# Altium integrated library ON Semi Small Signal Switching Diodes.IntLib: 233 symbols (part 3 of 6)
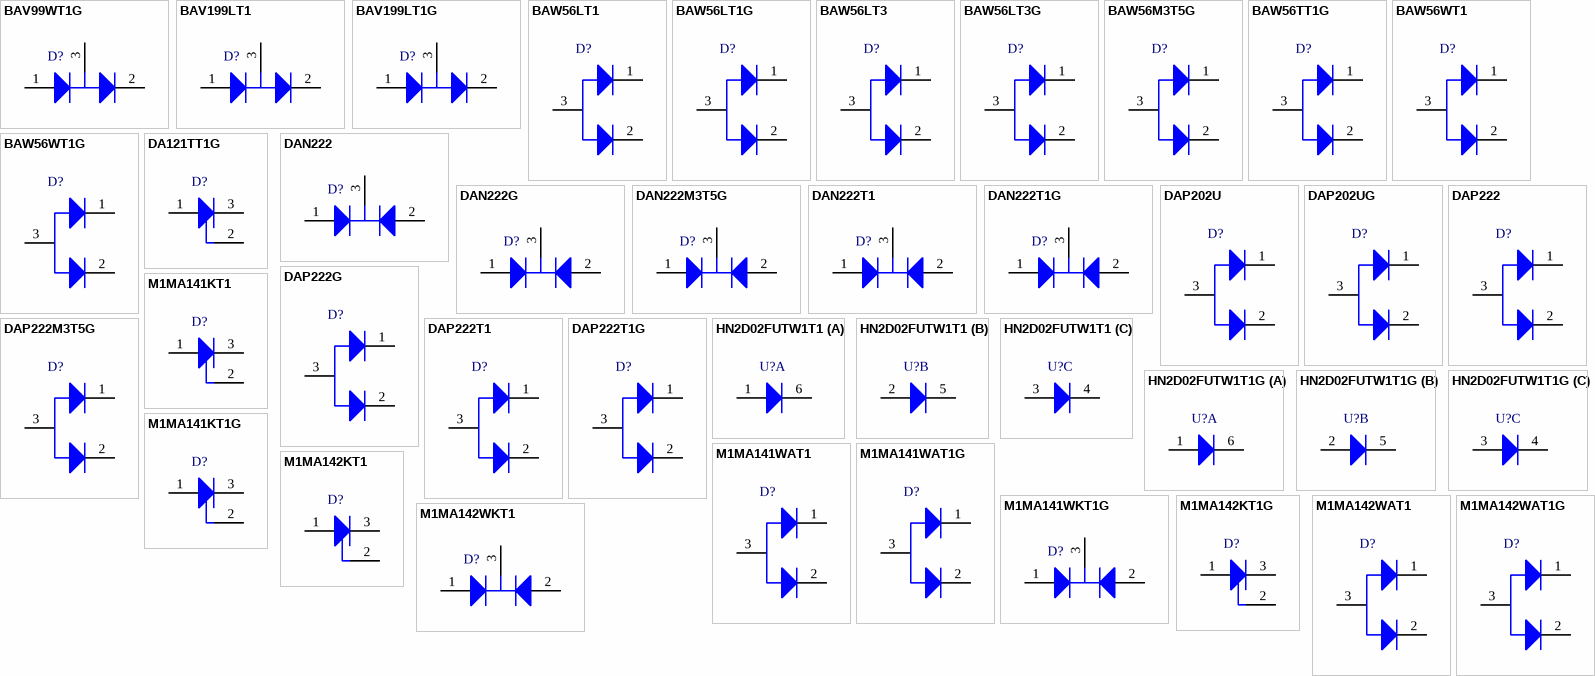
[diagram p8: symbols BAV99WT1G to M1MA142WKT1]

## DAP222
designator D?
Common Anode Silicon Dual Switching Diodes, 3-Pin SOT-416, Tape and Reel; Manufacturer: On Semiconductor; PartNumber: DAP222; IF Max (A): 0.1; trr Max (ns): 4; DatasheetVersion: Rev. 5; PackageVersion: Rev. F, 07/2005; PackageReference: SOT-416-3-463-01; PackageDescription: 3-Pin Small Outline Transistor, Body 1.6 x 0.8 mm, Pitch 0.5 mm; Supplier 1: Digi-Key; Supplier Part Number 1: DAP222OSTR-ND; Supplier 2: Digi-Key; Supplier Part Number 2: DAP222OSCT-ND; Configuration: Common Anode; Packing: Tape and Reel; RoHS: FALSE; Mounting Technology: Surface Mount; ComponentLink1Description: Manufacturer URL; ComponentLink1URL: http://www.onsemi.com/; ComponentLink2Description: Datasheet; ComponentLink2URL: http://www.onsemi.cn/pub_link/Collateral/DAP222-D.PDF; ComponentLink3Description: Package Specification; ComponentLink3URL: http://www.onsemi.com/pub_link/Collateral/463-01.PDF
footprint ONSC-SOT-416-3-463-01_V (SOT23, 3-Leads, Body 1.6x0.8mm, Pitch 0.5mm)
pins: 1 K1, 2 K2, 3 A

## DAP222G
designator D?
Common Anode Silicon Dual Switching Diodes, 3-Pin SOT-416, Pb-Free, Tape and Reel; Manufacturer: On Semiconductor; PartNumber: DAP222G; IF Max (A): 0.1; trr Max (ns): 4; DatasheetVersion: Rev. 5; PackageVersion: Rev. F, 07/2005; PackageReference: SOT-416-3-463-01; PackageDescription: 3-Pin Small Outline Transistor, Body 1.6 x 0.8 mm, Pitch 0.5 mm; Supplier 1: Digi-Key; Supplier Part Number 1: DAP222GOSTR-ND; Supplier 2: Digi-Key; Supplier Part Number 2: DAP222GOSCT-ND; Supplier 3: Digi-Key; Supplier Part Number 3: DAP222GOSDKR-ND; Supplier 4: Newark; Supplier Part Number 4: 88H4594; Supplier 5: Mouser; Supplier Part Number 5: 863-DAP222G; Configuration: Common Anode; Packing: Tape and Reel; RoHS: TRUE; Mounting Technology: Surface Mount; ComponentLink1Description: Manufacturer URL; ComponentLink1URL: http://www.onsemi.com/; ComponentLink2Description: Datasheet; ComponentLink2URL: http://www.onsemi.cn/pub_link/Collateral/DAP222-D.PDF; ComponentLink3Description: Package Specification; ComponentLink3URL: http://www.onsemi.com/pub_link/Collateral/463-01.PDF
footprint ONSC-SOT-416-3-463-01_V (SOT23, 3-Leads, Body 1.6x0.8mm, Pitch 0.5mm)
pins: 1 K1, 2 K2, 3 A

## DAP222M3T5G
designator D?
Common Anode Silicon Dual Switching Diodes, 3-Pin SOT-723, Pb-Free, Tape and Reel; Manufacturer: On Semiconductor; PartNumber: DAP222M3T5G; IF Max (A): 0.1; trr Max (ns): 4; DatasheetVersion: Rev. 1; PackageVersion: Rev. C, 08/2006; PackageReference: SOT-723-3-631AA-01_C; PackageDescription: 3-Pin SOT223, Body 0.8 x 1.2 mm, Pitch 0.4 mm; Supplier 1: Digi-Key; Supplier Part Number 1: DAP222M3T5G-ND; Supplier 2: Mouser; Supplier Part Number 2: 863-DAP222M3T5G; Configuration: Common Anode; Packing: Tape and Reel; RoHS: TRUE; Mounting Technology: Surface Mount; ComponentLink1Description: Manufacturer URL; ComponentLink1URL: http://www.onsemi.com/; ComponentLink2Description: Datasheet; ComponentLink2URL: http://www.onsemi.cn/pub_link/Collateral/DAP222M3-D.PDF; ComponentLink3Description: Package Specification; ComponentLink3URL: http://www.onsemi.cn/pub_link/Collateral/BAT54M3-D.PDF
footprint ONSC-SOT-723-3-631AA-01_C_V (SOT23, 3-Leads, Body 1.25x0.85mm, Pitch 0.4mm)
pins: 1 K1, 2 K2, 3 A

## DAP222T1
designator D?
Common Anode Silicon Dual Switching Diodes, 3-Pin SOT-416, Tape and Reel; Manufacturer: On Semiconductor; PartNumber: DAP222T1; IF Max (A): 0.1; trr Max (ns): 4; DatasheetVersion: Rev. 5; PackageVersion: Rev. F, 07/2005; PackageReference: SOT-416-3-463-01; PackageDescription: 3-Pin Small Outline Transistor, Body 1.6 x 0.8 mm, Pitch 0.5 mm; Supplier 1: Digi-Key; Supplier Part Number 1: DAP222T1OS-ND; Configuration: Common Anode; Packing: Tape and Reel; RoHS: FALSE; Mounting Technology: Surface Mount; ComponentLink1Description: Manufacturer URL; ComponentLink1URL: http://www.onsemi.com/; ComponentLink2Description: Datasheet; ComponentLink2URL: http://www.onsemi.cn/pub_link/Collateral/DAP222-D.PDF; ComponentLink3Description: Package Specification; ComponentLink3URL: http://www.onsemi.com/pub_link/Collateral/463-01.PDF
footprint ONSC-SOT-416-3-463-01_V (SOT23, 3-Leads, Body 1.6x0.8mm, Pitch 0.5mm)
pins: 1 K1, 2 K2, 3 A

## DAP222T1G
designator D?
Common Anode Silicon Dual Switching Diodes, 3-Pin SOT-416, Pb-Free, Tape and Reel; Manufacturer: On Semiconductor; PartNumber: DAP222T1G; IF Max (A): 0.1; trr Max (ns): 4; DatasheetVersion: Rev. 5; PackageVersion: Rev. F, 07/2005; PackageReference: SOT-416-3-463-01; PackageDescription: 3-Pin Small Outline Transistor, Body 1.6 x 0.8 mm, Pitch 0.5 mm; Supplier 1: Digi-Key; Supplier Part Number 1: DAP222T1GOSTR-ND; Supplier 2: Digi-Key; Supplier Part Number 2: DAP222T1GOSCT-ND; Supplier 3: Digi-Key; Supplier Part Number 3: DAP222T1GOSDKR-ND; Supplier 4: Newark; Supplier Part Number 4: 88H4595; Supplier 5: Mouser; Supplier Part Number 5: 863-DAP222T1G; Configuration: Common Anode; Packing: Tape and Reel; RoHS: TRUE; Mounting Technology: Surface Mount; ComponentLink1Description: Manufacturer URL; ComponentLink1URL: http://www.onsemi.com/; ComponentLink2Description: Datasheet; ComponentLink2URL: http://www.onsemi.cn/pub_link/Collateral/DAP222-D.PDF; ComponentLink3Description: Package Specification; ComponentLink3URL: http://www.onsemi.com/pub_link/Collateral/463-01.PDF
footprint ONSC-SOT-416-3-463-01_V (SOT23, 3-Leads, Body 1.6x0.8mm, Pitch 0.5mm)
pins: 1 K1, 2 K2, 3 A

## HN2D02FUTW1T1
designator U?
Ultra High Speed Switching Diodes, 6-Pin SC70, Tape and Reel; Manufacturer: On Semiconductor; PartNumber: HN2D02FUTW1T1; Configuration: Triple; IF Max (A): 0.1; trr Max (ns): 3; DatasheetVersion: Rev. 4; PackageVersion: Rev. W; PackageReference: SC70-6-419B-02_W; PackageDescription: 6-Pin Small Outline Transistor, Body 2 x 1.25 mm, Pitch 0.65 mm; Supplier 1: Digi-Key; Supplier Part Number 1: HN2D02FUTW1T1OSCT-ND; Packing: Tape and Reel; RoHS: FALSE; Mounting Technology: Surface Mount; ComponentLink1Description: Manufacturer URL; ComponentLink1URL: http://www.onsemi.com/; ComponentLink2Description: Datasheet; ComponentLink2URL: http://www.onsemi.cn/pub_link/Collateral/HN2D02FUTW1T1-D.PDF; ComponentLink3Description: Package Specification; ComponentLink3URL: http://www.onsemi.com/pub_link/Collateral/SMF05C-D.PDF
footprint ONSC-SC70-6-419B-02_W_V (SOT23, 6-Leads, Body 2x1.25mm, Pitch 0.65mm)
part A pins: 1 A1, 6 K1
part B pins: 2 A2, 5 K2
part C pins: 3 A3, 4 K3

## HN2D02FUTW1T1G
designator U?
Ultra High Speed Switching Diodes, 6-Pin SC70, Pb-Free, Tape and Reel; Manufacturer: On Semiconductor; PartNumber: HN2D02FUTW1T1G; Configuration: Triple; IF Max (A): 0.1; trr Max (ns): 3; DatasheetVersion: Rev. 4; PackageVersion: Rev. W; PackageReference: SC70-6-419B-02_W; PackageDescription: 6-Pin Small Outline Transistor, Body 2 x 1.25 mm, Pitch 0.65 mm; Supplier 1: Digi-Key; Supplier Part Number 1: HN2D02FUTW1T1GOSTR-ND; Supplier 2: Digi-Key; Supplier Part Number 2: HN2D02FUTW1T1GOSCT-ND; Supplier 3: Digi-Key; Supplier Part Number 3: HN2D02FUTW1T1GOSDKR-ND; Supplier 4: Farnell; Supplier Part Number 4: 2317444; Supplier 5: Newark; Supplier Part Number 5: 90W4405; Supplier 6: Newark; Supplier Part Number 6: 88H4651; Supplier 7: Newark; Supplier Part Number 7: 10N9696; Supplier 8: Mouser; Supplier Part Number 8: 863-HN2D02FUTW1T1G; Packing: Tape and Reel; RoHS: TRUE; Mounting Technology: Surface Mount; ComponentLink1Description: Manufacturer URL; ComponentLink1URL: http://www.onsemi.com/; ComponentLink2Description: Datasheet; ComponentLink2URL: http://www.onsemi.cn/pub_link/Collateral/HN2D02FUTW1T1-D.PDF; ComponentLink3Description: Package Specification; ComponentLink3URL: http://www.onsemi.com/pub_link/Collateral/SMF05C-D.PDF
footprint ONSC-SC70-6-419B-02_W_V (SOT23, 6-Leads, Body 2x1.25mm, Pitch 0.65mm)
part A pins: 1 A1, 6 K1
part B pins: 2 A2, 5 K2
part C pins: 3 A3, 4 K3

## M1MA141KT1
designator D?
Single Silicon Switching Diode, 3-Pin SOT-323, Tape and Reel; Manufacturer: On Semiconductor; PartNumber: M1MA141KT1; IF Max (A): 0.1; trr Max (ns): 3; DatasheetVersion: Rev. 7; PackageVersion: Rev. N, 11/2008; PackageReference: SOT-323-3-419-04; PackageDescription: 3-Pin Small Outline Transistor, Body 2 x 1.25 mm, Pitch 0.65 mm; Supplier 1: Digi-Key; Supplier Part Number 1: M1MA141KT1OSTR-ND; Supplier 2: Digi-Key; Supplier Part Number 2: M1MA141KT1OSCT-ND; Configuration: Single; Packing: Tape and Reel; RoHS: FALSE; Mounting Technology: Surface Mount; ComponentLink1Description: Manufacturer URL; ComponentLink1URL: http://www.onsemi.com/; ComponentLink2Description: Datasheet; ComponentLink2URL: http://www.onsemi.cn/pub_link/Collateral/M1MA141KT1-D.PDF; ComponentLink3Description: Package Specification; ComponentLink3URL: http://www.onsemi.com/pub_link/Collateral/419-04.PDF
footprint ONSC-SOT-323-3-419-04_V (SOT23, 3-Leads, Body 2x1.25mm, Pitch 0.65mm)
pins: 1 A, 2 NC, 3 K

## M1MA141KT1G
designator D?
Single Silicon Switching Diode, 3-Pin SOT-323, Pb-Free, Tape and Reel; Manufacturer: On Semiconductor; PartNumber: M1MA141KT1G; IF Max (A): 0.1; trr Max (ns): 3; DatasheetVersion: Rev. 7; PackageVersion: Rev. N, 11/2008; PackageReference: SOT-323-3-419-04; PackageDescription: 3-Pin Small Outline Transistor, Body 2 x 1.25 mm, Pitch 0.65 mm; Supplier 1: Digi-Key; Supplier Part Number 1: M1MA141KT1GOSTR-ND; Supplier 2: Digi-Key; Supplier Part Number 2: M1MA141KT1GOSCT-ND; Supplier 3: Digi-Key; Supplier Part Number 3: M1MA141KT1GOSDKR-ND; Supplier 4: Farnell; Supplier Part Number 4: 2317442; Supplier 5: Newark; Supplier Part Number 5: 90W4738; Supplier 6: Newark; Supplier Part Number 6: 42K1665; Supplier 7: Mouser; Supplier Part Number 7: 863-M1MA141KT1G; Configuration: Single; Packing: Tape and Reel; RoHS: TRUE; Mounting Technology: Surface Mount; ComponentLink1Description: Manufacturer URL; ComponentLink1URL: http://www.onsemi.com/; ComponentLink2Description: Datasheet; ComponentLink2URL: http://www.onsemi.cn/pub_link/Collateral/M1MA141KT1-D.PDF; ComponentLink3Description: Package Specification; ComponentLink3URL: http://www.onsemi.com/pub_link/Collateral/419-04.PDF
footprint ONSC-SOT-323-3-419-04_V (SOT23, 3-Leads, Body 2x1.25mm, Pitch 0.65mm)
pins: 1 A, 2 NC, 3 K

## M1MA141WAT1
designator D?
Common Anode Silicon Dual Switching Diodes, 3-Pin SOT-323, Tape and Reel; Manufacturer: On Semiconductor; PartNumber: M1MA141WAT1; trr Max (ns): 10; DatasheetVersion: Rev. 10; PackageVersion: Rev. N, 11/2008; PackageReference: SOT-323-3-419-04; PackageDescription: 3-Pin Small Outline Transistor, Body 2 x 1.25 mm, Pitch 0.65 mm; Supplier 1: Digi-Key; Supplier Part Number 1: M1MA141WAT1-ND; Configuration: Common Anode; Packing: Tape and Reel; RoHS: FALSE; Mounting Technology: Surface Mount; ComponentLink1Description: Manufacturer URL; ComponentLink1URL: http://www.onsemi.com/; ComponentLink2Description: Datasheet; ComponentLink2URL: http://www.onsemi.cn/pub_link/Collateral/M1MA141WAT1-D.PDF; ComponentLink3Description: Package Specification; ComponentLink3URL: http://www.onsemi.com/pub_link/Collateral/419-04.PDF
footprint ONSC-SOT-323-3-419-04_V (SOT23, 3-Leads, Body 2x1.25mm, Pitch 0.65mm)
pins: 1 K1, 2 K2, 3 A

## M1MA141WAT1G
designator D?
Common Anode Silicon Dual Switching Diodes, 3-Pin SOT-323, Pb-Free, Tape and Reel; Manufacturer: On Semiconductor; PartNumber: M1MA141WAT1G; trr Max (ns): 10; DatasheetVersion: Rev. 10; PackageVersion: Rev. N, 11/2008; PackageReference: SOT-323-3-419-04; PackageDescription: 3-Pin Small Outline Transistor, Body 2 x 1.25 mm, Pitch 0.65 mm; Supplier 1: Digi-Key; Supplier Part Number 1: M1MA141WAT1G-ND; Supplier 2: Newark; Supplier Part Number 2: 45J1750; Supplier 3: Mouser; Supplier Part Number 3: 863-M1MA141WAT1G; Configuration: Common Anode; Packing: Tape and Reel; RoHS: TRUE; Mounting Technology: Surface Mount; ComponentLink1Description: Manufacturer URL; ComponentLink1URL: http://www.onsemi.com/; ComponentLink2Description: Datasheet; ComponentLink2URL: http://www.onsemi.cn/pub_link/Collateral/M1MA141WAT1-D.PDF; ComponentLink3Description: Package Specification; ComponentLink3URL: http://www.onsemi.com/pub_link/Collateral/419-04.PDF
footprint ONSC-SOT-323-3-419-04_V (SOT23, 3-Leads, Body 2x1.25mm, Pitch 0.65mm)
pins: 1 K1, 2 K2, 3 A

## M1MA141WKT1G
designator D?
Common Cathode Silicon Dual Switching Diodes, 3-Pin SOT-323, Pb-Free, Tape and Reel; Manufacturer: On Semiconductor; PartNumber: M1MA141WKT1G; trr Max (ns): 3; DatasheetVersion: Rev. 9; PackageVersion: Rev. N, 11/2008; PackageReference: SOT-323-3-419-04; PackageDescription: 3-Pin Small Outline Transistor, Body 2 x 1.25 mm, Pitch 0.65 mm; Supplier 1: Digi-Key; Supplier Part Number 1: M1MA141WKT1G-ND; Supplier 2: Mouser; Supplier Part Number 2: 863-M1MA141WKT1G; Configuration: Common Cathode; Packing: Tape and Reel; RoHS: TRUE; Mounting Technology: Surface Mount; ComponentLink1Description: Manufacturer URL; ComponentLink1URL: http://www.onsemi.com/; ComponentLink2Description: Datasheet; ComponentLink2URL: http://www.onsemi.cn/pub_link/Collateral/M1MA141WKT1-D.PDF; ComponentLink3Description: Package Specification; ComponentLink3URL: http://www.onsemi.com/pub_link/Collateral/419-04.PDF
footprint ONSC-SOT-323-3-419-04_V (SOT23, 3-Leads, Body 2x1.25mm, Pitch 0.65mm)
pins: 1 A1, 2 A2, 3 K

## M1MA142KT1
designator D?
Single Silicon Switching Diode, 3-Pin SOT-323, Tape and Reel; Manufacturer: On Semiconductor; PartNumber: M1MA142KT1; IF Max (A): 0.1; trr Max (ns): 3; DatasheetVersion: Rev. 7; PackageVersion: Rev. N, 11/2008; PackageReference: SOT-323-3-419-04; PackageDescription: 3-Pin Small Outline Transistor, Body 2 x 1.25 mm, Pitch 0.65 mm; Supplier 1: Digi-Key; Supplier Part Number 1: M1MA142KT1-ND; Supplier 2: Mouser; Supplier Part Number 2: 863-M1MA142KT1; Configuration: Single; Packing: Tape and Reel; RoHS: FALSE; Mounting Technology: Surface Mount; ComponentLink1Description: Manufacturer URL; ComponentLink1URL: http://www.onsemi.com/; ComponentLink2Description: Datasheet; ComponentLink2URL: http://www.onsemi.cn/pub_link/Collateral/M1MA141KT1-D.PDF; ComponentLink3Description: Package Specification; ComponentLink3URL: http://www.onsemi.com/pub_link/Collateral/419-04.PDF
footprint ONSC-SOT-323-3-419-04_V (SOT23, 3-Leads, Body 2x1.25mm, Pitch 0.65mm)
pins: 1 A, 2 NC, 3 K

## M1MA142KT1G
designator D?
Single Silicon Switching Diode, 3-Pin SOT-323, Pb-Free, Tape and Reel; Manufacturer: On Semiconductor; PartNumber: M1MA142KT1G; IF Max (A): 0.1; trr Max (ns): 3; DatasheetVersion: Rev. 7; PackageVersion: Rev. N, 11/2008; PackageReference: SOT-323-3-419-04; PackageDescription: 3-Pin Small Outline Transistor, Body 2 x 1.25 mm, Pitch 0.65 mm; Supplier 1: Digi-Key; Supplier Part Number 1: M1MA142KT1G-ND; Supplier 2: Mouser; Supplier Part Number 2: 863-M1MA142KT1G; Configuration: Single; Packing: Tape and Reel; RoHS: TRUE; Mounting Technology: Surface Mount; ComponentLink1Description: Manufacturer URL; ComponentLink1URL: http://www.onsemi.com/; ComponentLink2Description: Datasheet; ComponentLink2URL: http://www.onsemi.cn/pub_link/Collateral/M1MA141KT1-D.PDF; ComponentLink3Description: Package Specification; ComponentLink3URL: http://www.onsemi.com/pub_link/Collateral/419-04.PDF
footprint ONSC-SOT-323-3-419-04_V (SOT23, 3-Leads, Body 2x1.25mm, Pitch 0.65mm)
pins: 1 A, 2 NC, 3 K

## M1MA142WAT1
designator D?
Common Anode Silicon Dual Switching Diodes, 3-Pin SOT-323, Tape and Reel; Manufacturer: On Semiconductor; PartNumber: M1MA142WAT1; Note: 0; trr Max (ns): 10; DatasheetVersion: Rev. 10; PackageVersion: Rev. N, 11/2008; PackageReference: SOT-323-3-419-04; PackageDescription: 3-Pin Small Outline Transistor, Body 2 x 1.25 mm, Pitch 0.65 mm; Configuration: Common Anode; Packing: Tape and Reel; RoHS: FALSE; Mounting Technology: Surface Mount; ComponentLink1Description: Manufacturer URL; ComponentLink1URL: http://www.onsemi.com/; ComponentLink2Description: Datasheet; ComponentLink2URL: http://www.onsemi.cn/pub_link/Collateral/M1MA141WAT1-D.PDF; ComponentLink3Description: Package Specification; ComponentLink3URL: http://www.onsemi.com/pub_link/Collateral/419-04.PDF
footprint ONSC-SOT-323-3-419-04_V (SOT23, 3-Leads, Body 2x1.25mm, Pitch 0.65mm)
pins: 1 K1, 2 K2, 3 A

## M1MA142WAT1G
designator D?
Common Anode Silicon Dual Switching Diodes, 3-Pin SOT-323, Pb-Free, Tape and Reel; Manufacturer: On Semiconductor; PartNumber: M1MA142WAT1G; trr Max (ns): 10; DatasheetVersion: Rev. 10; PackageVersion: Rev. N, 11/2008; PackageReference: SOT-323-3-419-04; PackageDescription: 3-Pin Small Outline Transistor, Body 2 x 1.25 mm, Pitch 0.65 mm; Supplier 1: Digi-Key; Supplier Part Number 1: M1MA142WAT1GOSTR-ND; Supplier 2: Digi-Key; Supplier Part Number 2: M1MA142WAT1GOSCT-ND; Supplier 3: Digi-Key; Supplier Part Number 3: M1MA142WAT1GOSDKR-ND; Supplier 4: Newark; Supplier Part Number 4: 88H4949; Supplier 5: Mouser; Supplier Part Number 5: 863-M1MA142WAT1G; Configuration: Common Anode; Packing: Tape and Reel; RoHS: TRUE; Mounting Technology: Surface Mount; ComponentLink1Description: Manufacturer URL; ComponentLink1URL: http://www.onsemi.com/; ComponentLink2Description: Datasheet; ComponentLink2URL: http://www.onsemi.cn/pub_link/Collateral/M1MA141WAT1-D.PDF; ComponentLink3Description: Package Specification; ComponentLink3URL: http://www.onsemi.com/pub_link/Collateral/419-04.PDF
footprint ONSC-SOT-323-3-419-04_V (SOT23, 3-Leads, Body 2x1.25mm, Pitch 0.65mm)
pins: 1 K1, 2 K2, 3 A

## M1MA142WKT1
designator D?
Common Cathode Silicon Dual Switching Diodes, 3-Pin SOT-323, Tape and Reel; Manufacturer: On Semiconductor; PartNumber: M1MA142WKT1; Note: 0; trr Max (ns): 3; DatasheetVersion: Rev. 9; PackageVersion: Rev. N, 11/2008; PackageReference: SOT-323-3-419-04; PackageDescription: 3-Pin Small Outline Transistor, Body 2 x 1.25 mm, Pitch 0.65 mm; Configuration: Common Cathode; Packing: Tape and Reel; RoHS: FALSE; Mounting Technology: Surface Mount; ComponentLink1Description: Manufacturer URL; ComponentLink1URL: http://www.onsemi.com/; ComponentLink2Description: Datasheet; ComponentLink2URL: http://www.onsemi.cn/pub_link/Collateral/M1MA141WKT1-D.PDF; ComponentLink3Description: Package Specification; ComponentLink3URL: http://www.onsemi.com/pub_link/Collateral/419-04.PDF
footprint ONSC-SOT-323-3-419-04_V (SOT23, 3-Leads, Body 2x1.25mm, Pitch 0.65mm)
pins: 1 A1, 2 A2, 3 K

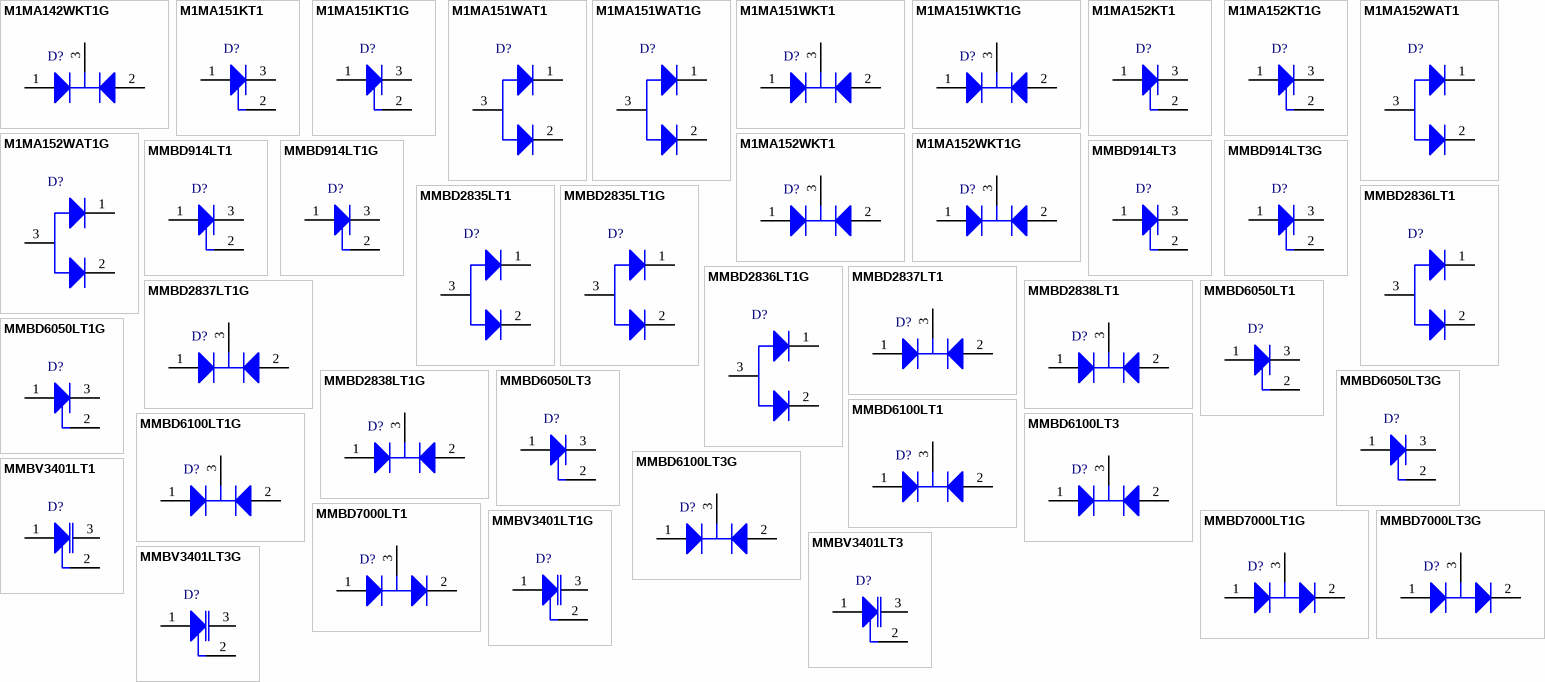
[diagram p3: symbols M1MA142WKT1G to MMBV3401LT3G]

## M1MA142WKT1G
designator D?
Common Cathode Silicon Dual Switching Diodes, 3-Pin SOT-323, Pb-Free, Tape and Reel; Manufacturer: On Semiconductor; PartNumber: M1MA142WKT1G; trr Max (ns): 3; DatasheetVersion: Rev. 9; PackageVersion: Rev. N, 11/2008; PackageReference: SOT-323-3-419-04; PackageDescription: 3-Pin Small Outline Transistor, Body 2 x 1.25 mm, Pitch 0.65 mm; Supplier 1: Digi-Key; Supplier Part Number 1: M1MA142WKT1GOSTR-ND; Supplier 2: Digi-Key; Supplier Part Number 2: M1MA142WKT1GOSCT-ND; Supplier 3: Digi-Key; Supplier Part Number 3: M1MA142WKT1GOSDKR-ND; Supplier 4: Farnell; Supplier Part Number 4: 2317453; Supplier 5: Newark; Supplier Part Number 5: 90W4739; Supplier 6: Newark; Supplier Part Number 6: 83H7586; Supplier 7: Newark; Supplier Part Number 7: 85W2266; Supplier 8: Mouser; Supplier Part Number 8: 863-M1MA142WKT1G; Configuration: Common Cathode; Packing: Tape and Reel; RoHS: TRUE; Mounting Technology: Surface Mount; ComponentLink1Description: Manufacturer URL; ComponentLink1URL: http://www.onsemi.com/; ComponentLink2Description: Datasheet; ComponentLink2URL: http://www.onsemi.cn/pub_link/Collateral/M1MA141WKT1-D.PDF; ComponentLink3Description: Package Specification; ComponentLink3URL: http://www.onsemi.com/pub_link/Collateral/419-04.PDF
footprint ONSC-SOT-323-3-419-04_V (SOT23, 3-Leads, Body 2x1.25mm, Pitch 0.65mm)
pins: 1 A1, 2 A2, 3 K

## M1MA151KT1
designator D?
Single Silicon Switching Diode, 3-Pin SC-59, Tape and Reel; Manufacturer: On Semiconductor; PartNumber: M1MA151KT1; IF Max (A): 0.1; trr Max (ns): 3; DatasheetVersion: Rev. 8; PackageVersion: Rev. H, 06/2012; PackageReference: SC-59-3-318D-04; PackageDescription: 3-Pin Small Outline Transistor, Body 2.9 x 1.5 mm, Pitch 0.95 mm; Supplier 1: Digi-Key; Supplier Part Number 1: M1MA151KT1-ND; Configuration: Single; Packing: Tape and Reel; RoHS: FALSE; Mounting Technology: Surface Mount; ComponentLink1Description: Manufacturer URL; ComponentLink1URL: http://www.onsemi.com/; ComponentLink2Description: Datasheet; ComponentLink2URL: http://www.onsemi.cn/pub_link/Collateral/M1MA151KT1-D.PDF; ComponentLink3Description: Package Specification; ComponentLink3URL: http://www.onsemi.cn/pub_link/Collateral/318D-04.PDF
footprint ONSC-SC-59-3-318D-04_V (SOT23, 3-Leads, Body 2.9x1.5mm, Pitch 0.95mm)
pins: 1 A, 2 NC, 3 K

## M1MA151KT1G
designator D?
Single Silicon Switching Diode, 3-Pin SC-59, Pb-Free, Tape and Reel; Manufacturer: On Semiconductor; PartNumber: M1MA151KT1G; IF Max (A): 0.1; trr Max (ns): 3; DatasheetVersion: Rev. 8; PackageVersion: Rev. H, 06/2012; PackageReference: SC-59-3-318D-04; PackageDescription: 3-Pin Small Outline Transistor, Body 2.9 x 1.5 mm, Pitch 0.95 mm; Supplier 1: Digi-Key; Supplier Part Number 1: M1MA151KT1G-ND; Supplier 2: Mouser; Supplier Part Number 2: 863-M1MA151KT1G; Configuration: Single; Packing: Tape and Reel; RoHS: TRUE; Mounting Technology: Surface Mount; ComponentLink1Description: Manufacturer URL; ComponentLink1URL: http://www.onsemi.com/; ComponentLink2Description: Datasheet; ComponentLink2URL: http://www.onsemi.cn/pub_link/Collateral/M1MA151KT1-D.PDF; ComponentLink3Description: Package Specification; ComponentLink3URL: http://www.onsemi.cn/pub_link/Collateral/318D-04.PDF
footprint ONSC-SC-59-3-318D-04_V (SOT23, 3-Leads, Body 2.9x1.5mm, Pitch 0.95mm)
pins: 1 A, 2 NC, 3 K

## M1MA151WAT1
designator D?
Common Anode Silicon Dual Switching Diodes, 3-Pin SC-59, Tape and Reel; Manufacturer: On Semiconductor; PartNumber: M1MA151WAT1; Note: 0; trr Max (ns): 10; DatasheetVersion: Rev. 10; PackageVersion: Rev. H, 06/2012; PackageReference: SC-59-3-318D-04; PackageDescription: 3-Pin Small Outline Transistor, Body 2.9 x 1.5 mm, Pitch 0.95 mm; Configuration: Common Anode; Packing: Tape and Reel; RoHS: FALSE; Mounting Technology: Surface Mount; ComponentLink1Description: Manufacturer URL; ComponentLink1URL: http://www.onsemi.com/; ComponentLink2Description: Datasheet; ComponentLink2URL: http://www.onsemi.cn/pub_link/Collateral/M1MA151WAT1-D.PDF; ComponentLink3Description: Package Specification; ComponentLink3URL: http://www.onsemi.cn/pub_link/Collateral/318D-04.PDF
footprint ONSC-SC-59-3-318D-04_V (SOT23, 3-Leads, Body 2.9x1.5mm, Pitch 0.95mm)
pins: 1 K1, 2 K2, 3 A

## M1MA151WAT1G
designator D?
Common Anode Silicon Dual Switching Diodes, 3-Pin SC-59, Pb-Free, Tape and Reel; Manufacturer: On Semiconductor; PartNumber: M1MA151WAT1G; trr Max (ns): 10; DatasheetVersion: Rev. 10; PackageVersion: Rev. H, 06/2012; PackageReference: SC-59-3-318D-04; PackageDescription: 3-Pin Small Outline Transistor, Body 2.9 x 1.5 mm, Pitch 0.95 mm; Supplier 1: Digi-Key; Supplier Part Number 1: M1MA151WAT1G-ND; Supplier 2: Newark; Supplier Part Number 2: 83H7589; Supplier 3: Mouser; Supplier Part Number 3: 863-M1MA151WAT1G; Configuration: Common Anode; Packing: Tape and Reel; RoHS: TRUE; Mounting Technology: Surface Mount; ComponentLink1Description: Manufacturer URL; ComponentLink1URL: http://www.onsemi.com/; ComponentLink2Description: Datasheet; ComponentLink2URL: http://www.onsemi.cn/pub_link/Collateral/M1MA151WAT1-D.PDF; ComponentLink3Description: Package Specification; ComponentLink3URL: http://www.onsemi.cn/pub_link/Collateral/318D-04.PDF
footprint ONSC-SC-59-3-318D-04_V (SOT23, 3-Leads, Body 2.9x1.5mm, Pitch 0.95mm)
pins: 1 K1, 2 K2, 3 A

## M1MA151WKT1
designator D?
Common Cathode Silicon Dual Switching Diodes, 3-Pin SC-59, Tape and Reel; Manufacturer: On Semiconductor; PartNumber: M1MA151WKT1; Note: 0; trr Max (ns): 3; DatasheetVersion: Rev. 11; PackageVersion: Rev. H, 06/2012; PackageReference: SC-59-3-318D-04; PackageDescription: 3-Pin Small Outline Transistor, Body 2.9 x 1.5 mm, Pitch 0.95 mm; Configuration: Common Cathode; Packing: Tape and Reel; RoHS: FALSE; Mounting Technology: Surface Mount; ComponentLink1Description: Manufacturer URL; ComponentLink1URL: http://www.onsemi.com/; ComponentLink2Description: Datasheet; ComponentLink2URL: http://www.onsemi.cn/pub_link/Collateral/M1MA151WKT1-D.PDF; ComponentLink3Description: Package Specification; ComponentLink3URL: http://www.onsemi.cn/pub_link/Collateral/318D-04.PDF
footprint ONSC-SC-59-3-318D-04_V (SOT23, 3-Leads, Body 2.9x1.5mm, Pitch 0.95mm)
pins: 1 A1, 2 A2, 3 K

## M1MA151WKT1G
designator D?
Common Cathode Silicon Dual Switching Diodes, 3-Pin SC-59, Pb-Free, Tape and Reel; Manufacturer: On Semiconductor; PartNumber: M1MA151WKT1G; trr Max (ns): 3; DatasheetVersion: Rev. 11; PackageVersion: Rev. H, 06/2012; PackageReference: SC-59-3-318D-04; PackageDescription: 3-Pin Small Outline Transistor, Body 2.9 x 1.5 mm, Pitch 0.95 mm; Supplier 1: Digi-Key; Supplier Part Number 1: M1MA151WKT1G-ND; Supplier 2: Newark; Supplier Part Number 2: 67H6962; Supplier 3: Mouser; Supplier Part Number 3: 863-M1MA151WKT1G; Configuration: Common Cathode; Packing: Tape and Reel; RoHS: TRUE; Mounting Technology: Surface Mount; ComponentLink1Description: Manufacturer URL; ComponentLink1URL: http://www.onsemi.com/; ComponentLink2Description: Datasheet; ComponentLink2URL: http://www.onsemi.cn/pub_link/Collateral/M1MA151WKT1-D.PDF; ComponentLink3Description: Package Specification; ComponentLink3URL: http://www.onsemi.cn/pub_link/Collateral/318D-04.PDF
footprint ONSC-SC-59-3-318D-04_V (SOT23, 3-Leads, Body 2.9x1.5mm, Pitch 0.95mm)
pins: 1 A1, 2 A2, 3 K

## M1MA152KT1
designator D?
Single Silicon Switching Diode, 3-Pin SC-59, Tape and Reel; Manufacturer: On Semiconductor; PartNumber: M1MA152KT1; IF Max (A): 0.1; trr Max (ns): 3; DatasheetVersion: Rev. 8; PackageVersion: Rev. H, 06/2012; PackageReference: SC-59-3-318D-04; PackageDescription: 3-Pin Small Outline Transistor, Body 2.9 x 1.5 mm, Pitch 0.95 mm; Supplier 1: Digi-Key; Supplier Part Number 1: M1MA152KT1-ND; Configuration: Single; Packing: Tape and Reel; RoHS: FALSE; Mounting Technology: Surface Mount; ComponentLink1Description: Manufacturer URL; ComponentLink1URL: http://www.onsemi.com/; ComponentLink2Description: Datasheet; ComponentLink2URL: http://www.onsemi.cn/pub_link/Collateral/M1MA151KT1-D.PDF; ComponentLink3Description: Package Specification; ComponentLink3URL: http://www.onsemi.cn/pub_link/Collateral/318D-04.PDF
footprint ONSC-SC-59-3-318D-04_V (SOT23, 3-Leads, Body 2.9x1.5mm, Pitch 0.95mm)
pins: 1 A, 2 NC, 3 K

## M1MA152KT1G
designator D?
Single Silicon Switching Diode, 3-Pin SC-59, Pb-Free, Tape and Reel; Manufacturer: On Semiconductor; PartNumber: M1MA152KT1G; IF Max (A): 0.1; trr Max (ns): 3; DatasheetVersion: Rev. 8; PackageVersion: Rev. H, 06/2012; PackageReference: SC-59-3-318D-04; PackageDescription: 3-Pin Small Outline Transistor, Body 2.9 x 1.5 mm, Pitch 0.95 mm; Supplier 1: Digi-Key; Supplier Part Number 1: M1MA152KT1G-ND; Supplier 2: Mouser; Supplier Part Number 2: 863-M1MA152KT1G; Configuration: Single; Packing: Tape and Reel; RoHS: TRUE; Mounting Technology: Surface Mount; ComponentLink1Description: Manufacturer URL; ComponentLink1URL: http://www.onsemi.com/; ComponentLink2Description: Datasheet; ComponentLink2URL: http://www.onsemi.cn/pub_link/Collateral/M1MA151KT1-D.PDF; ComponentLink3Description: Package Specification; ComponentLink3URL: http://www.onsemi.cn/pub_link/Collateral/318D-04.PDF
footprint ONSC-SC-59-3-318D-04_V (SOT23, 3-Leads, Body 2.9x1.5mm, Pitch 0.95mm)
pins: 1 A, 2 NC, 3 K

## M1MA152WAT1
designator D?
Common Anode Silicon Dual Switching Diodes, 3-Pin SC-59, Tape and Reel; Manufacturer: On Semiconductor; PartNumber: M1MA152WAT1; IF Max (A): 0.1; trr Max (ns): 10; DatasheetVersion: Rev. 10; PackageVersion: Rev. H, 06/2012; PackageReference: SC-59-3-318D-04; PackageDescription: 3-Pin Small Outline Transistor, Body 2.9 x 1.5 mm, Pitch 0.95 mm; Supplier 1: Digi-Key; Supplier Part Number 1: M1MA152WAT1OS-ND; Configuration: Common Anode; Packing: Tape and Reel; RoHS: FALSE; Mounting Technology: Surface Mount; ComponentLink1Description: Manufacturer URL; ComponentLink1URL: http://www.onsemi.com/; ComponentLink2Description: Datasheet; ComponentLink2URL: http://www.onsemi.cn/pub_link/Collateral/M1MA151WAT1-D.PDF; ComponentLink3Description: Package Specification; ComponentLink3URL: http://www.onsemi.cn/pub_link/Collateral/318D-04.PDF
footprint ONSC-SC-59-3-318D-04_V (SOT23, 3-Leads, Body 2.9x1.5mm, Pitch 0.95mm)
pins: 1 K1, 2 K2, 3 A

## M1MA152WAT1G
designator D?
Common Anode Silicon Dual Switching Diodes, 3-Pin SC-59, Pb-Free, Tape and Reel; Manufacturer: On Semiconductor; PartNumber: M1MA152WAT1G; IF Max (A): 0.1; trr Max (ns): 10; DatasheetVersion: Rev. 10; PackageVersion: Rev. H, 06/2012; PackageReference: SC-59-3-318D-04; PackageDescription: 3-Pin Small Outline Transistor, Body 2.9 x 1.5 mm, Pitch 0.95 mm; Supplier 1: Digi-Key; Supplier Part Number 1: M1MA152WAT1GOSTR-ND; Supplier 2: Digi-Key; Supplier Part Number 2: M1MA152WAT1GOSCT-ND; Supplier 3: Mouser; Supplier Part Number 3: 863-M1MA152WAT1G; Configuration: Common Anode; Packing: Tape and Reel; RoHS: TRUE; Mounting Technology: Surface Mount; ComponentLink1Description: Manufacturer URL; ComponentLink1URL: http://www.onsemi.com/; ComponentLink2Description: Datasheet; ComponentLink2URL: http://www.onsemi.cn/pub_link/Collateral/M1MA151WAT1-D.PDF; ComponentLink3Description: Package Specification; ComponentLink3URL: http://www.onsemi.cn/pub_link/Collateral/318D-04.PDF
footprint ONSC-SC-59-3-318D-04_V (SOT23, 3-Leads, Body 2.9x1.5mm, Pitch 0.95mm)
pins: 1 K1, 2 K2, 3 A

## M1MA152WKT1
designator D?
Common Cathode Silicon Dual Switching Diodes, 3-Pin SC-59, Tape and Reel; Manufacturer: On Semiconductor; PartNumber: M1MA152WKT1; Note: 0; trr Max (ns): 3; DatasheetVersion: Rev. 10; PackageVersion: Rev. H, 06/2012; PackageReference: SC-59-3-318D-04; PackageDescription: 3-Pin Small Outline Transistor, Body 2.9 x 1.5 mm, Pitch 0.95 mm; Configuration: Common Cathode; Packing: Tape and Reel; RoHS: FALSE; Mounting Technology: Surface Mount; ComponentLink1Description: Manufacturer URL; ComponentLink1URL: http://www.onsemi.com/; ComponentLink2Description: Datasheet; ComponentLink2URL: http://www.onsemi.cn/pub_link/Collateral/M1MA151WAT1-D.PDF; ComponentLink3Description: Package Specification; ComponentLink3URL: http://www.onsemi.cn/pub_link/Collateral/318D-04.PDF
footprint ONSC-SC-59-3-318D-04_V (SOT23, 3-Leads, Body 2.9x1.5mm, Pitch 0.95mm)
pins: 1 A1, 2 A2, 3 K

## M1MA152WKT1G
designator D?
Common Cathode Silicon Dual Switching Diodes, 3-Pin SC-59, Pb-Free, Tape and Reel; Manufacturer: On Semiconductor; PartNumber: M1MA152WKT1G; trr Max (ns): 3; DatasheetVersion: Rev. 11; PackageVersion: Rev. H, 06/2012; PackageReference: SC-59-3-318D-04; PackageDescription: 3-Pin Small Outline Transistor, Body 2.9 x 1.5 mm, Pitch 0.95 mm; Supplier 1: Digi-Key; Supplier Part Number 1: M1MA152WKT1GOSTR-ND; Supplier 2: Digi-Key; Supplier Part Number 2: M1MA152WKT1GOSCT-ND; Supplier 3: Digi-Key; Supplier Part Number 3: M1MA152WKT1GOSDKR-ND; Supplier 4: Newark; Supplier Part Number 4: 88H4951; Supplier 5: Mouser; Supplier Part Number 5: 863-M1MA152WKT1G; Configuration: Common Cathode; Packing: Tape and Reel; RoHS: TRUE; Mounting Technology: Surface Mount; ComponentLink1Description: Manufacturer URL; ComponentLink1URL: http://www.onsemi.com/; ComponentLink2Description: Datasheet; ComponentLink2URL: http://www.onsemi.cn/pub_link/Collateral/M1MA151WKT1-D.PDF; ComponentLink3Description: Package Specification; ComponentLink3URL: http://www.onsemi.cn/pub_link/Collateral/318D-04.PDF
footprint ONSC-SC-59-3-318D-04_V (SOT23, 3-Leads, Body 2.9x1.5mm, Pitch 0.95mm)
pins: 1 A1, 2 A2, 3 K

## MMBD914LT1
designator D?
High-Speed Switching Diode, 3-Pin SOT-23, Tape and Reel; Manufacturer: On Semiconductor; PartNumber: MMBD914LT1; Configuration: Single; IF Max (A): 0.2; trr Max (ns): 4; DatasheetVersion: Rev. 7; PackageVersion: Rev. AP, 11/2009; PackageReference: SOT-23-3-318-08; PackageDescription: 3-Pin Small Outline Transistor, Body 2.92 x 1.3 mm, Pitch 0.95 mm; Supplier 1: Digi-Key; Supplier Part Number 1: MMBD914LT1OSCT-ND; Packing: Tape and Reel; RoHS: FALSE; Mounting Technology: Surface Mount; ComponentLink1Description: Manufacturer URL; ComponentLink1URL: http://www.onsemi.com/; ComponentLink2Description: Datasheet; ComponentLink2URL: http://www.onsemi.cn/pub_link/Collateral/MMBD914LT1-D.PDF; ComponentLink3Description: Package Specification; ComponentLink3URL: http://www.onsemi.cn/pub_link/Collateral/318-08.PDF
footprint ONSC-SOT-23-3-318-08_V (SOT23, 3-Leads, Body 2.92x1.3mm, Pitch 0.95mm)
pins: 1 A, 2 NC, 3 K

## MMBD914LT1G
designator D?
High-Speed Switching Diode, 3-Pin SOT-23, Pb-Free, Tape and Reel; Manufacturer: On Semiconductor; PartNumber: MMBD914LT1G; Configuration: Single; IF Max (A): 0.2; trr Max (ns): 4; DatasheetVersion: Rev. 7; PackageVersion: Rev. AP, 11/2009; PackageReference: SOT-23-3-318-08; PackageDescription: 3-Pin Small Outline Transistor, Body 2.92 x 1.3 mm, Pitch 0.95 mm; Supplier 1: Digi-Key; Supplier Part Number 1: MMBD914LT1GOSTR-ND; Supplier 2: Digi-Key; Supplier Part Number 2: MMBD914LT1GOSCT-ND; Supplier 3: Digi-Key; Supplier Part Number 3: MMBD914LT1GOSDKR-ND; Supplier 4: Farnell; Supplier Part Number 4: 1431125RL; Supplier 5: Farnell; Supplier Part Number 5: 2317695; Supplier 6: Farnell; Supplier Part Number 6: 1431125; Supplier 7: Newark; Supplier Part Number 7: 88H4778; Supplier 8: Newark; Supplier Part Number 8: 67R1326; Supplier 9: Mouser; Supplier Part Number 9: 863-MMBD914LT1G; Packing: Tape and Reel; RoHS: TRUE; Mounting Technology: Surface Mount; ComponentLink1Description: Manufacturer URL; ComponentLink1URL: http://www.onsemi.com/; ComponentLink2Description: Datasheet; ComponentLink2URL: http://www.onsemi.cn/pub_link/Collateral/MMBD914LT1-D.PDF; ComponentLink3Description: Package Specification; ComponentLink3URL: http://www.onsemi.cn/pub_link/Collateral/318-08.PDF
footprint ONSC-SOT-23-3-318-08_V (SOT23, 3-Leads, Body 2.92x1.3mm, Pitch 0.95mm)
pins: 1 A, 2 NC, 3 K

## MMBD914LT3
designator D?
High-Speed Switching Diode, 3-Pin SOT-23, Tape and Reel; Manufacturer: On Semiconductor; PartNumber: MMBD914LT3; Note: 0; Configuration: Single; IF Max (A): 0.2; trr Max (ns): 4; DatasheetVersion: Rev. 7; PackageVersion: Rev. AP, 11/2009; PackageReference: SOT-23-3-318-08; PackageDescription: 3-Pin Small Outline Transistor, Body 2.92 x 1.3 mm, Pitch 0.95 mm; Packing: Tape and Reel; RoHS: FALSE; Mounting Technology: Surface Mount; ComponentLink1Description: Manufacturer URL; ComponentLink1URL: http://www.onsemi.com/; ComponentLink2Description: Datasheet; ComponentLink2URL: http://www.onsemi.cn/pub_link/Collateral/MMBD914LT1-D.PDF; ComponentLink3Description: Package Specification; ComponentLink3URL: http://www.onsemi.cn/pub_link/Collateral/318-08.PDF
footprint ONSC-SOT-23-3-318-08_V (SOT23, 3-Leads, Body 2.92x1.3mm, Pitch 0.95mm)
pins: 1 A, 2 NC, 3 K

## MMBD914LT3G
designator D?
High-Speed Switching Diode, 3-Pin SOT-23, Pb-Free, Tape and Reel; Manufacturer: On Semiconductor; PartNumber: MMBD914LT3G; Configuration: Single; IF Max (A): 0.2; trr Max (ns): 4; DatasheetVersion: Rev. 7; PackageVersion: Rev. AP, 11/2009; PackageReference: SOT-23-3-318-08; PackageDescription: 3-Pin Small Outline Transistor, Body 2.92 x 1.3 mm, Pitch 0.95 mm; Supplier 1: Digi-Key; Supplier Part Number 1: MMBD914LT3GOSTR-ND; Supplier 2: Digi-Key; Supplier Part Number 2: MMBD914LT3GOSCT-ND; Supplier 3: Digi-Key; Supplier Part Number 3: MMBD914LT3GOSDKR-ND; Supplier 4: Farnell; Supplier Part Number 4: 1278497; Supplier 5: Farnell; Supplier Part Number 5: 1878571; Supplier 6: Newark; Supplier Part Number 6: 84K8793; Supplier 7: Newark; Supplier Part Number 7: 45J1516; Supplier 8: Mouser; Supplier Part Number 8: 863-MMBD914LT3G; Packing: Tape and Reel; RoHS: TRUE; Mounting Technology: Surface Mount; ComponentLink1Description: Manufacturer URL; ComponentLink1URL: http://www.onsemi.com/; ComponentLink2Description: Datasheet; ComponentLink2URL: http://www.onsemi.cn/pub_link/Collateral/MMBD914LT1-D.PDF; ComponentLink3Description: Package Specification; ComponentLink3URL: http://www.onsemi.cn/pub_link/Collateral/318-08.PDF
footprint ONSC-SOT-23-3-318-08_V (SOT23, 3-Leads, Body 2.92x1.3mm, Pitch 0.95mm)
pins: 1 A, 2 NC, 3 K

## MMBD2835LT1
designator D?
Monolithic Dual Switching Diodes, 3-Pin SOT-23, Tape and Reel; Manufacturer: On Semiconductor; PartNumber: MMBD2835LT1; Configuration: Common Anode; IF Max (A): 0.1; trr Max (ns): 4; DatasheetVersion: Rev. 6; PackageVersion: Rev. AP, 11/2009; PackageReference: SOT-23-3-318-08; PackageDescription: 3-Pin Small Outline Transistor, Body 2.92 x 1.3 mm, Pitch 0.95 mm; Supplier 1: Digi-Key; Supplier Part Number 1: MMBD2835LT1OSCT-ND; Packing: Tape and Reel; RoHS: FALSE; Mounting Technology: Surface Mount; ComponentLink1Description: Manufacturer URL; ComponentLink1URL: http://www.onsemi.com/; ComponentLink2Description: Datasheet; ComponentLink2URL: http://www.onsemi.cn/pub_link/Collateral/MMBD2835LT1-D.PDF; ComponentLink3Description: Package Specification; ComponentLink3URL: http://www.onsemi.cn/pub_link/Collateral/318-08.PDF
footprint ONSC-SOT-23-3-318-08_V (SOT23, 3-Leads, Body 2.92x1.3mm, Pitch 0.95mm)
pins: 1 K1, 2 K2, 3 A

## MMBD2835LT1G
designator D?
Monolithic Dual Switching Diodes, 3-Pin SOT-23, Pb-Free, Tape and Reel; Manufacturer: On Semiconductor; PartNumber: MMBD2835LT1G; Configuration: Common Anode; IF Max (A): 0.1; trr Max (ns): 4; DatasheetVersion: Rev. 6; PackageVersion: Rev. AP, 11/2009; PackageReference: SOT-23-3-318-08; PackageDescription: 3-Pin Small Outline Transistor, Body 2.92 x 1.3 mm, Pitch 0.95 mm; Supplier 1: Digi-Key; Supplier Part Number 1: MMBD2835LT1GOSTR-ND; Supplier 2: Digi-Key; Supplier Part Number 2: MMBD2835LT1GOSCT-ND; Supplier 3: Digi-Key; Supplier Part Number 3: MMBD2835LT1GOSDKR-ND; Supplier 4: Newark; Supplier Part Number 4: 26K4530; Supplier 5: Newark; Supplier Part Number 5: 10N9700; Supplier 6: Mouser; Supplier Part Number 6: 863-MMBD2835LT1G; Packing: Tape and Reel; RoHS: TRUE; Mounting Technology: Surface Mount; ComponentLink1Description: Manufacturer URL; ComponentLink1URL: http://www.onsemi.com/; ComponentLink2Description: Datasheet; ComponentLink2URL: http://www.onsemi.cn/pub_link/Collateral/MMBD2835LT1-D.PDF; ComponentLink3Description: Package Specification; ComponentLink3URL: http://www.onsemi.cn/pub_link/Collateral/318-08.PDF
footprint ONSC-SOT-23-3-318-08_V (SOT23, 3-Leads, Body 2.92x1.3mm, Pitch 0.95mm)
pins: 1 K1, 2 K2, 3 A

## MMBD2836LT1
designator D?
Monolithic Dual Switching Diodes, 3-Pin SOT-23, Tape and Reel; Manufacturer: On Semiconductor; PartNumber: MMBD2836LT1; Configuration: Common Anode; IF Max (A): 0.1; trr Max (ns): 4; DatasheetVersion: Rev. 6; PackageVersion: Rev. AP, 11/2009; PackageReference: SOT-23-3-318-08; PackageDescription: 3-Pin Small Outline Transistor, Body 2.92 x 1.3 mm, Pitch 0.95 mm; Supplier 1: Digi-Key; Supplier Part Number 1: MMBD2836LT1OSCT-ND; Packing: Tape and Reel; RoHS: FALSE; Mounting Technology: Surface Mount; ComponentLink1Description: Manufacturer URL; ComponentLink1URL: http://www.onsemi.com/; ComponentLink2Description: Datasheet; ComponentLink2URL: http://www.onsemi.cn/pub_link/Collateral/MMBD2835LT1-D.PDF; ComponentLink3Description: Package Specification; ComponentLink3URL: http://www.onsemi.cn/pub_link/Collateral/318-08.PDF
footprint ONSC-SOT-23-3-318-08_V (SOT23, 3-Leads, Body 2.92x1.3mm, Pitch 0.95mm)
pins: 1 K1, 2 K2, 3 A

## MMBD2836LT1G
designator D?
Monolithic Dual Switching Diodes, 3-Pin SOT-23, Pb-Free, Tape and Reel; Manufacturer: On Semiconductor; PartNumber: MMBD2836LT1G; Configuration: Common Anode; IF Max (A): 0.1; trr Max (ns): 4; DatasheetVersion: Rev. 6; PackageVersion: Rev. AP, 11/2009; PackageReference: SOT-23-3-318-08; PackageDescription: 3-Pin Small Outline Transistor, Body 2.92 x 1.3 mm, Pitch 0.95 mm; Supplier 1: Digi-Key; Supplier Part Number 1: MMBD2836LT1GOSTR-ND; Supplier 2: Digi-Key; Supplier Part Number 2: MMBD2836LT1GOSCT-ND; Supplier 3: Digi-Key; Supplier Part Number 3: MMBD2836LT1GOSDKR-ND; Supplier 4: Farnell; Supplier Part Number 4: 1890769; Supplier 5: Newark; Supplier Part Number 5: 84K8791; Supplier 6: Newark; Supplier Part Number 6: 88H4770; Supplier 7: Mouser; Supplier Part Number 7: 863-MMBD2836LT1G; Packing: Tape and Reel; RoHS: TRUE; Mounting Technology: Surface Mount; ComponentLink1Description: Manufacturer URL; ComponentLink1URL: http://www.onsemi.com/; ComponentLink2Description: Datasheet; ComponentLink2URL: http://www.onsemi.cn/pub_link/Collateral/MMBD2835LT1-D.PDF; ComponentLink3Description: Package Specification; ComponentLink3URL: http://www.onsemi.cn/pub_link/Collateral/318-08.PDF
footprint ONSC-SOT-23-3-318-08_V (SOT23, 3-Leads, Body 2.92x1.3mm, Pitch 0.95mm)
pins: 1 K1, 2 K2, 3 A

## MMBD2837LT1
designator D?
Monolithic Dual Switching Diodes, 3-Pin SOT-23, Tape and Reel; Manufacturer: On Semiconductor; PartNumber: MMBD2837LT1; Configuration: Common Cathode; trr Max (ns): 4; DatasheetVersion: Rev. 7; PackageVersion: Rev. AP, 11/2009; PackageReference: SOT-23-3-318-08; PackageDescription: 3-Pin Small Outline Transistor, Body 2.92 x 1.3 mm, Pitch 0.95 mm; Supplier 1: Digi-Key; Supplier Part Number 1: MMBD2837LT1OSTR-ND; Supplier 2: Digi-Key; Supplier Part Number 2: MMBD2837LT1OSCT-ND; Packing: Tape and Reel; RoHS: FALSE; Mounting Technology: Surface Mount; ComponentLink1Description: Manufacturer URL; ComponentLink1URL: http://www.onsemi.com/; ComponentLink2Description: Datasheet; ComponentLink2URL: http://www.onsemi.cn/pub_link/Collateral/MMBD2837LT1-D.PDF; ComponentLink3Description: Package Specification; ComponentLink3URL: http://www.onsemi.cn/pub_link/Collateral/318-08.PDF
footprint ONSC-SOT-23-3-318-08_V (SOT23, 3-Leads, Body 2.92x1.3mm, Pitch 0.95mm)
pins: 1 A1, 2 A2, 3 K

## MMBD2837LT1G
designator D?
Monolithic Dual Switching Diodes, 3-Pin SOT-23, Pb-Free, Tape and Reel; Manufacturer: On Semiconductor; PartNumber: MMBD2837LT1G; Configuration: Common Cathode; trr Max (ns): 4; DatasheetVersion: Rev. 7; PackageVersion: Rev. AP, 11/2009; PackageReference: SOT-23-3-318-08; PackageDescription: 3-Pin Small Outline Transistor, Body 2.92 x 1.3 mm, Pitch 0.95 mm; Supplier 1: Digi-Key; Supplier Part Number 1: MMBD2837LT1GOSTR-ND; Supplier 2: Digi-Key; Supplier Part Number 2: MMBD2837LT1GOSCT-ND; Supplier 3: Digi-Key; Supplier Part Number 3: MMBD2837LT1GOSDKR-ND; Supplier 4: Newark; Supplier Part Number 4: 84K8792; Supplier 5: Newark; Supplier Part Number 5: 26K4531; Supplier 6: Mouser; Supplier Part Number 6: 863-MMBD2837LT1G; Packing: Tape and Reel; RoHS: TRUE; Mounting Technology: Surface Mount; ComponentLink1Description: Manufacturer URL; ComponentLink1URL: http://www.onsemi.com/; ComponentLink2Description: Datasheet; ComponentLink2URL: http://www.onsemi.cn/pub_link/Collateral/MMBD2837LT1-D.PDF; ComponentLink3Description: Package Specification; ComponentLink3URL: http://www.onsemi.cn/pub_link/Collateral/318-08.PDF
footprint ONSC-SOT-23-3-318-08_V (SOT23, 3-Leads, Body 2.92x1.3mm, Pitch 0.95mm)
pins: 1 A1, 2 A2, 3 K

## MMBD2838LT1
designator D?
Monolithic Dual Switching Diodes, 3-Pin SOT-23, Tape and Reel; Manufacturer: On Semiconductor; PartNumber: MMBD2838LT1; Configuration: Common Cathode; trr Max (ns): 4; DatasheetVersion: Rev. 7; PackageVersion: Rev. AP, 11/2009; PackageReference: SOT-23-3-318-08; PackageDescription: 3-Pin Small Outline Transistor, Body 2.92 x 1.3 mm, Pitch 0.95 mm; Supplier 1: Digi-Key; Supplier Part Number 1: MMBD2838LT1OSTR-ND; Supplier 2: Digi-Key; Supplier Part Number 2: MMBD2838LT1OSCT-ND; Packing: Tape and Reel; RoHS: FALSE; Mounting Technology: Surface Mount; ComponentLink1Description: Manufacturer URL; ComponentLink1URL: http://www.onsemi.com/; ComponentLink2Description: Datasheet; ComponentLink2URL: http://www.onsemi.cn/pub_link/Collateral/MMBD2837LT1-D.PDF; ComponentLink3Description: Package Specification; ComponentLink3URL: http://www.onsemi.cn/pub_link/Collateral/318-08.PDF
footprint ONSC-SOT-23-3-318-08_V (SOT23, 3-Leads, Body 2.92x1.3mm, Pitch 0.95mm)
pins: 1 A1, 2 A2, 3 K

## MMBD2838LT1G
designator D?
Monolithic Dual Switching Diodes, 3-Pin SOT-23, Pb-Free, Tape and Reel; Manufacturer: On Semiconductor; PartNumber: MMBD2838LT1G; Configuration: Common Cathode; trr Max (ns): 4; DatasheetVersion: Rev. 7; PackageVersion: Rev. AP, 11/2009; PackageReference: SOT-23-3-318-08; PackageDescription: 3-Pin Small Outline Transistor, Body 2.92 x 1.3 mm, Pitch 0.95 mm; Supplier 1: Digi-Key; Supplier Part Number 1: MMBD2838LT1GOSTR-ND; Supplier 2: Digi-Key; Supplier Part Number 2: MMBD2838LT1GOSCT-ND; Supplier 3: Digi-Key; Supplier Part Number 3: MMBD2838LT1GOSDKR-ND; Supplier 4: Newark; Supplier Part Number 4: 88H4771; Supplier 5: Mouser; Supplier Part Number 5: 863-MMBD2838LT1G; Packing: Tape and Reel; RoHS: TRUE; Mounting Technology: Surface Mount; ComponentLink1Description: Manufacturer URL; ComponentLink1URL: http://www.onsemi.com/; ComponentLink2Description: Datasheet; ComponentLink2URL: http://www.onsemi.cn/pub_link/Collateral/MMBD2837LT1-D.PDF; ComponentLink3Description: Package Specification; ComponentLink3URL: http://www.onsemi.cn/pub_link/Collateral/318-08.PDF
footprint ONSC-SOT-23-3-318-08_V (SOT23, 3-Leads, Body 2.92x1.3mm, Pitch 0.95mm)
pins: 1 A1, 2 A2, 3 K

## MMBD6050LT1
designator D?
Switching Diode, 3-Pin SOT-23, Tape and Reel; Manufacturer: On Semiconductor; PartNumber: MMBD6050LT1; Configuration: Single; IF Max (A): 0.2; trr Max (ns): 4; DatasheetVersion: Rev. 6; PackageVersion: Rev. AP, 11/2009; PackageReference: SOT-23-3-318-08; PackageDescription: 3-Pin Small Outline Transistor, Body 2.92 x 1.3 mm, Pitch 0.95 mm; Supplier 1: Digi-Key; Supplier Part Number 1: MMBD6050LT1OSCT-ND; Packing: Tape and Reel; RoHS: FALSE; Mounting Technology: Surface Mount; ComponentLink1Description: Manufacturer URL; ComponentLink1URL: http://www.onsemi.com/; ComponentLink2Description: Datasheet; ComponentLink2URL: http://www.onsemi.cn/pub_link/Collateral/MMBD6050LT1-D.PDF; ComponentLink3Description: Package Specification; ComponentLink3URL: http://www.onsemi.cn/pub_link/Collateral/318-08.PDF
footprint ONSC-SOT-23-3-318-08_V (SOT23, 3-Leads, Body 2.92x1.3mm, Pitch 0.95mm)
pins: 1 A, 2 NC, 3 K

## MMBD6050LT1G
designator D?
Switching Diode, 3-Pin SOT-23, Pb-Free, Tape and Reel; Manufacturer: On Semiconductor; PartNumber: MMBD6050LT1G; Configuration: Single; IF Max (A): 0.2; trr Max (ns): 4; DatasheetVersion: Rev. 6; PackageVersion: Rev. AP, 11/2009; PackageReference: SOT-23-3-318-08; PackageDescription: 3-Pin Small Outline Transistor, Body 2.92 x 1.3 mm, Pitch 0.95 mm; Supplier 1: Digi-Key; Supplier Part Number 1: MMBD6050LT1GOSTR-ND; Supplier 2: Digi-Key; Supplier Part Number 2: MMBD6050LT1GOSCT-ND; Supplier 3: Digi-Key; Supplier Part Number 3: MMBD6050LT1GOSDKR-ND; Supplier 4: Farnell; Supplier Part Number 4: 2317714; Supplier 5: Farnell; Supplier Part Number 5: 1155725; Supplier 6: Newark; Supplier Part Number 6: 67R1323; Supplier 7: Newark; Supplier Part Number 7: 88H4774; Supplier 8: Mouser; Supplier Part Number 8: 863-MMBD6050LT1G; Packing: Tape and Reel; RoHS: TRUE; Mounting Technology: Surface Mount; ComponentLink1Description: Manufacturer URL; ComponentLink1URL: http://www.onsemi.com/; ComponentLink2Description: Datasheet; ComponentLink2URL: http://www.onsemi.cn/pub_link/Collateral/MMBD6050LT1-D.PDF; ComponentLink3Description: Package Specification; ComponentLink3URL: http://www.onsemi.cn/pub_link/Collateral/318-08.PDF
footprint ONSC-SOT-23-3-318-08_V (SOT23, 3-Leads, Body 2.92x1.3mm, Pitch 0.95mm)
pins: 1 A, 2 NC, 3 K

## MMBD6050LT3
designator D?
Switching Diode, 3-Pin SOT-23, Tape and Reel; Manufacturer: On Semiconductor; PartNumber: MMBD6050LT3; Note: 0; Configuration: Single; IF Max (A): 0.2; trr Max (ns): 4; DatasheetVersion: Rev. 6; PackageVersion: Rev. AP, 11/2009; PackageReference: SOT-23-3-318-08; PackageDescription: 3-Pin Small Outline Transistor, Body 2.92 x 1.3 mm, Pitch 0.95 mm; Packing: Tape and Reel; RoHS: FALSE; Mounting Technology: Surface Mount; ComponentLink1Description: Manufacturer URL; ComponentLink1URL: http://www.onsemi.com/; ComponentLink2Description: Datasheet; ComponentLink2URL: http://www.onsemi.cn/pub_link/Collateral/MMBD6050LT1-D.PDF; ComponentLink3Description: Package Specification; ComponentLink3URL: http://www.onsemi.cn/pub_link/Collateral/318-08.PDF
footprint ONSC-SOT-23-3-318-08_V (SOT23, 3-Leads, Body 2.92x1.3mm, Pitch 0.95mm)
pins: 1 A, 2 NC, 3 K

## MMBD6050LT3G
designator D?
Switching Diode, 3-Pin SOT-23, Pb-Free, Tape and Reel; Manufacturer: On Semiconductor; PartNumber: MMBD6050LT3G; Configuration: Single; IF Max (A): 0.2; trr Max (ns): 4; DatasheetVersion: Rev. 6; PackageVersion: Rev. AP, 11/2009; PackageReference: SOT-23-3-318-08; PackageDescription: 3-Pin Small Outline Transistor, Body 2.92 x 1.3 mm, Pitch 0.95 mm; Supplier 1: Digi-Key; Supplier Part Number 1: MMBD6050LT3G-ND; Supplier 2: Newark; Supplier Part Number 2: 88H4775; Supplier 3: Mouser; Supplier Part Number 3: 863-MMBD6050LT3G; Packing: Tape and Reel; RoHS: TRUE; Mounting Technology: Surface Mount; ComponentLink1Description: Manufacturer URL; ComponentLink1URL: http://www.onsemi.com/; ComponentLink2Description: Datasheet; ComponentLink2URL: http://www.onsemi.cn/pub_link/Collateral/MMBD6050LT1-D.PDF; ComponentLink3Description: Package Specification; ComponentLink3URL: http://www.onsemi.cn/pub_link/Collateral/318-08.PDF
footprint ONSC-SOT-23-3-318-08_V (SOT23, 3-Leads, Body 2.92x1.3mm, Pitch 0.95mm)
pins: 1 A, 2 NC, 3 K